# EAGLE library part ERM8-010-01-D-RA (library con-samtec-er8)
ERM8 Series - Male Right Angle Edge Mount
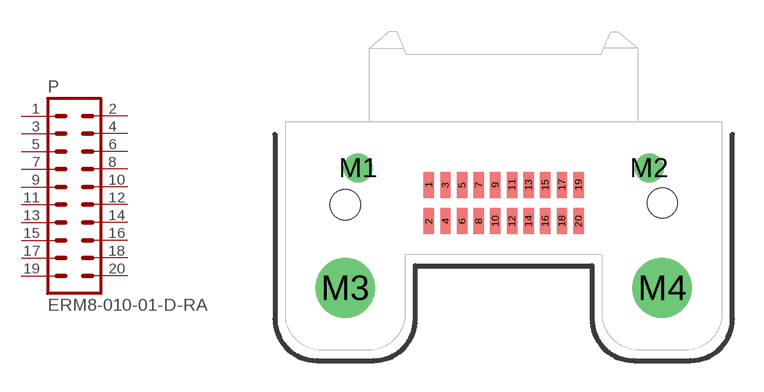
[diagram p29: symbol with the pads of ERM8-010-01-D-RA; footprint ERM8-010-01-D-RA]

Designator prefix P

## ERM8-010-01-D-RA  [ERM8-010-01-D-RA]
1  1  pas
2  2  pas
3  3  pas
4  4  pas
5  5  pas
6  6  pas
7  7  pas
8  8  pas
9  9  pas
10  10  pas
11  11  pas
12  12  pas
13  13  pas
14  14  pas
15  15  pas
16  16  pas
17  17  pas
18  18  pas
19  19  pas
20  20  pas

## Footprint ERM8-010-01-D-RA (pad centres in mm)
0.8mm Edge Rate Terminal Assembly MALE, Right Angle Double Row, 10 Position
smd 0.5 x 1.25: 1 -3.6,0.875; 2 -3.6,-0.875; 3 -2.8,0.875; 4 -2.8,-0.875; 5 -2,0.875; 6 -2,-0.875; 7 -1.2,0.875; 8 -1.2,-0.875; 9 -0.4,0.875; 10 -0.4,-0.875; 11 0.4,0.875; 12 0.4,-0.875; 13 1.2,0.875; 14 1.2,-0.875; 15 2,0.875; 16 2,-0.875; 17 2.8,0.875; 18 2.8,-0.875; 19 3.6,0.875; 20 3.6,-0.875
drill 0.7 pad 1.4 round: M1 -7,1.69; M2 7,1.69
drill 1.91 pad 2.5 round: M3 -7.625,-4.09; M4 7.625,-4.09
hole 1.45 at -7.625,-0.09
hole 1.45 at 7.625,0